# Altium schematic symbol library SRP7028A-6R8M.SchLib: 2 symbols
Pins are listed as number, name and electrical type; pins without a type are passive.

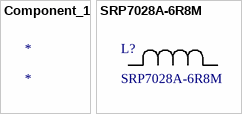
[diagram p0: symbols Component_1 to SRP7028A-6R8M]

## Component_1
designator *

## SRP7028A-6R8M
designator L?
No Description Available; Mfr_Name: Bourns Electronics; Type: DEV; Copyright: Copyright (C) 2023 Ultra Librarian. All rights reserved.; Manufacturer_Part_Number: SRP7028A-6R8M; RefDes: RefDes
footprint IND_SRP7028A-6R8M_BRN
pins: 1, 2